# Altium footprint library Buzzer.PcbLib: 8 footprints
Each footprint in its own frame and in the unit in brackets; x right, y up, seen from the top. Pads: shape width x height; smd on the part's side, far side on the other; paste and mask are expansions set on the pad; w line width, h text height; cw(c..) or ccw(c..) is an arc to the next point about the centre after c.
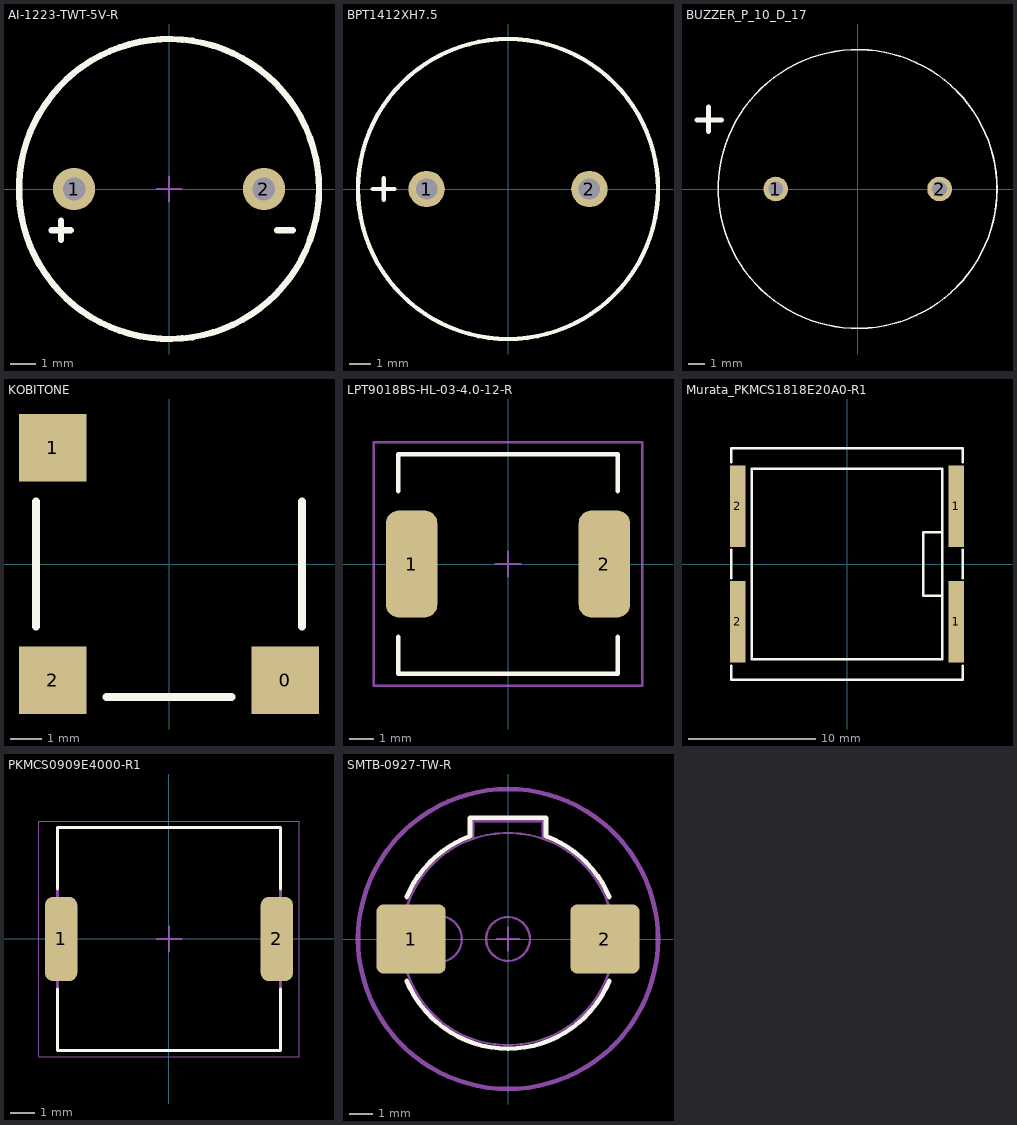
[diagram p0: the footprints below, top view; thin cyan lines are the x and y axes]

## AI-1223-TWT-5V-R [mm]
pads (2):
  round 1.7 hole 0.9: 1(-3.8,0) 2(3.8,0)
Top Overlay:
  circle w0.254: c0,0 r6
  lines w0.254: -4.699,-1.651 -3.937,-1.651 ; -4.318,-2.032 -4.318,-1.27 ; 4.318,-1.651 4.953,-1.651
Mechanical 15:
  lines w0.1: -0.5,0 0.5,0 ; 0,-0.5 0,0.5
3D body: height 10, standoff -3, extent -6,-6 6,6

## BPT1412XH7.5 [mm]
pads (2):
  round 1.7 hole 1: 1(-3.8,0) 2(3.8,0)
Top Overlay:
  circle w0.2: c0,0 r7
  lines w0.2: -6.308,0 -5.292,0 ; -5.8,-0.508 -5.8,0.508
3D body: height 7.5, standoff 0, extent -6.9,-6.9 6.9,6.9

## BUZZER_P_10_D_17 [mm] "Buzzer with pitch 10mm and diameter 17mm"
pads (2):
  round 1.5 hole 0.9 unplated: 1(-5,0) 2(5,0)
Top Overlay:
  circle w0.1: c0,0 r8.502
  lines w0.3: -9.8,4.2 -8.3,4.2 ; -9.1,3.5 -9.1,5
3D body: height 7, standoff 0, extent -8.5,-8.497 8.5,8.497

## KOBITONE [mm] "254-EMB84Q-RO"
pads (3):
  rect 2.16x2.16 smd: 0(3.72,-3.72) 1(-3.72,3.72) 2(-3.72,-3.72)
Top Overlay:
  lines w0.254: -4.25,-2 -4.25,2 ; -2,-4.25 2,-4.25 ; 4.25,-2 4.25,2
3D body: height 3, standoff 0, extent -4.25,-4.25 4.25,4.25

## LPT9018BS-HL-03-4.0-12-R [mm] "9mm square, pads underneath"
height 1.8
pads (2):
  rrect50% 2.1x4.4 smd: 1(-3.95,0) 2(3.95,0)
Top Overlay:
  lines w0.2: -4.5,-3 -4.5,-4.5 4.5,-4.5 4.5,-3 ; -4.5,3 -4.5,4.5 4.5,4.5 4.5,3
Mechanical 15:
  lines w0.1: -0.5,0 0.5,0 ; 0,-0.5 0,0.5 ; -5.5,-5 5.5,-5 5.5,5 -5.5,5 -5.5,-5
3D body: height 1.8, standoff 0, extent -4.5,-4.5 4.5,4.5

## Murata_PKMCS1818E20A0-R1 [mm]
pads (4):
  rect 1.2x6.4 smd: 1(8.6,-4.55) 1(8.6,4.55) 2(-8.6,-4.55) 2(-8.6,4.55)
Top Overlay:
  lines w0.2: -9.1,-8 -9.1,-9.1 9.1,-9.1 9.1,-8 ; -9.1,-1.1 -9.1,1.1 ; -9.1,8 -9.1,9.1 9.1,9.1 9.1,8 ; 7.5,-2.5 6,-2.5 6,2.5 7.5,2.5 ; 9.1,-1.1 9.1,1.1 ; -7.5,-7.5 7.5,-7.5 7.5,7.5 -7.5,7.5 -7.5,-7.5
3D body: height 1, standoff 0, extent -7.4,-7.4 7.4,7.4
3D body: height 7, standoff 1.7, extent 7.6,-2.6 9,2.6
3D body: height 1.8, standoff 0, extent -9,-9 9,9
3D body: height 8, standoff 1.7, extent -7.6,-7.6 7.6,7.6

## PKMCS0909E4000-R1 [mm] "Murata Piezoelectric Buzzer"
height 1.9
pads (2):
  rrect50% 1.3x3.4 smd: 1(-4.35,0) 2(4.35,0)
Top Overlay:
  lines w0.127: -4.5,-2.02 -4.5,-4.5 4.5,-4.5 4.5,-2.02 ; -4.5,2.02 -4.5,4.5 4.5,4.5 4.5,2.02
Mechanical 13:
  lines w0.127: -4.5,-4.5 4.5,-4.5 4.5,4.5 -4.5,4.5 -4.5,-4.5
Mechanical 15:
  lines w0.05: -5.25,-4.75 -5.25,4.75 5.25,4.75 5.25,-4.75 -5.25,-4.75
  lines w0.1: -0.5,0 0.5,0 ; 0,-0.5 0,0.5
3D body: height 1.9, standoff 0, extent -4.5,-4.5 4.5,4.5

## SMTB-0927-TW-R [mm]
height 4.5
pads (2):
  rrect20% 3x3 smd: 1(-4.2,0) 2(4.2,0)
Top Overlay:
  lines w0.2: -4.388,-1.82 ccw(c0,0) 4.388,-1.82 ; -4.388,1.82 cw(c0,0) -1.646,4.456 -1.646,5.25 1.646,5.25 1.646,4.456 cw(c0,0) 4.388,1.82
Mechanical 13:
  circle w0.1: c0,0 r0.95
  circle w0.1: c-3,0 r1
  circle w0.1: c0,0 r4.6
  lines w0.1: -1.5,4.35 -1.5,5.1 1.5,5.1 1.5,4.35
  text "+" at -2.525,-0.325 h1
Mechanical 15:
  circle w0.2: c0,0 r6.5
  lines w0.1: -0.5,0 0.5,0 ; 0,-0.5 0,0.5
3D body: height 1.7, standoff 0, extent -1.5,4.35 1.5,5.1
3D body: height 4.5, standoff 0, extent -4.6,-4.6 4.6,4.6